# Altium integrated library TANTALUM_CAP_3528(B)_TCJB106M025R0150.IntLib: 1 symbol
Pins are listed as number, name and electrical type; pins without a type are passive.

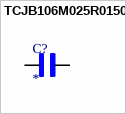
[diagram p0: symbol TCJB106M025R0150]

## TCJB106M025R0150
designator C?
10 ÂµF Molded Tantalum Polymer Capacitor 25 V 1411 (3528 Metric), 1210 150mOhm @ 100kHz; MF: AVX; MP: TCJB106M025R0150; SnapEDA_Link: https://www.snapeda.com/parts/TCJB106M025R0150/AVX/view-part/?ref=snap; Package: 1210 AVX; Value: *; Check_prices: https://www.snapeda.com/parts/TCJB106M025R0150/AVX/view-part/?ref=eda
footprint CAPPC3528X210N
pins: 1, 2